# EAGLE library part ARDUINO-VARIOUS_ARDUINO-USB (library lightuino3.lbrlightuino3.1)
The Ardiuno Duemilanove Pinouts layoutet as a Bare Shield. v0.5 Also for Arduino Diecimila. This is designed as a Part and has no Outline in the Dimension Layer. The Outline, when present, is drawed at the tPlace / bPlace Layer. Library by Stephanie Lange, http://www.k-ita.de/~sl/
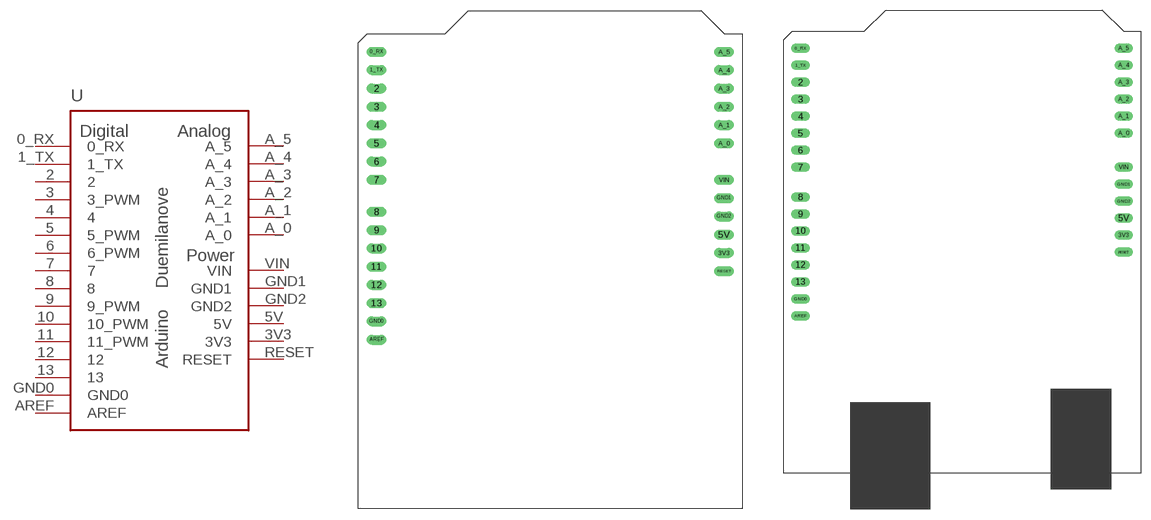
[diagram p0: symbol with the pads of ARDUINO-VARIOUS_SHIELD-NOTEXT; footprints ARDUINO-VARIOUS_SHIELD-NOTEXT, ARDUINO-VARIOUS_SHIELD]

Designator prefix -

## ARDUINO-VARIOUS_ARDUINO-USBLONG_PADS_NO_TEXT  [ARDUINO-VARIOUS_SHIELD-NOTEXT]
0_RX  0_RX
1_TX  1_TX
2  2
3  3_PWM
3V3  3V3  pwr
4  4
5  5_PWM
5V  5V  pwr
6  6_PWM
7  7
8  8
9  9_PWM
10  10_PWM
11  11_PWM
12  12
13  13
A_0  A_0  in
A_1  A_1  in
A_2  A_2  in
A_3  A_3  in
A_4  A_4  in
A_5  A_5  in
AREF  AREF
GND0  GND0  sup
GND1  GND1  sup
GND2  GND2  sup
RESET  RESET  in
VIN  VIN  pwr

## ARDUINO-VARIOUS_ARDUINO-USBLONG_PADS_TEXT  [ARDUINO-VARIOUS_SHIELD]
Pads as for ARDUINO-VARIOUS_SHIELD-NOTEXT

## ARDUINO-VARIOUS_ARDUINO-USBNO-OUTLINE-NO-TEXT-OCTAGONAL  [ARDUINO-VARIOUS_NO-OUTLINE-OCTAGONAL-NOTEXT]
Pads as for ARDUINO-VARIOUS_SHIELD-NOTEXT

## ARDUINO-VARIOUS_ARDUINO-USBOCTAGONAL_PADS  [ARDUINO-VARIOUS_SHIELD-OCTAGONALPAD]
Pads as for ARDUINO-VARIOUS_SHIELD-NOTEXT

## Footprint ARDUINO-VARIOUS_SHIELD-NOTEXT (pad centres in mm)
Unnamed long Solderpads eg. for homemade etched PCBs
drill 0.9 pad 1.27 long: 0_RX -25.4,27.94; 1_TX -25.4,25.4; 2 -25.4,22.86; 3 -25.4,20.32; 3V3 22.86,0; 4 -25.4,17.78; 5 -25.4,15.24; 5V 22.86,2.54; 6 -25.4,12.7; 7 -25.4,10.16; 8 -25.4,5.715; 9 -25.4,3.175; 10 -25.4,0.635; 11 -25.4,-1.905; 12 -25.4,-4.445; 13 -25.4,-6.985; A_0 22.86,15.24; A_1 22.86,17.78; A_2 22.86,20.32; A_3 22.86,22.86; A_4 22.86,25.4; A_5 22.86,27.94; AREF -25.4,-12.065; GND0 -25.4,-9.525; GND1 22.86,7.62; GND2 22.86,5.08; RESET 22.86,-2.54; VIN 22.86,10.16

## Footprint ARDUINO-VARIOUS_SHIELD (pad centres in mm)
Named long Solderpads and blocks indicating the USB and pwr parts. Do not put thru hole solder parts above these!
drill 0.9 pad 1.27 long: 0_RX -25.4,27.94; 1_TX -25.4,25.4; 2 -25.4,22.86; 3 -25.4,20.32; 3V3 22.86,0; 4 -25.4,17.78; 5 -25.4,15.24; 5V 22.86,2.54; 6 -25.4,12.7; 7 -25.4,10.16; 8 -25.4,5.715; 9 -25.4,3.175; 10 -25.4,0.635; 11 -25.4,-1.905; 12 -25.4,-4.445; 13 -25.4,-6.985; A_0 22.86,15.24; A_1 22.86,17.78; A_2 22.86,20.32; A_3 22.86,22.86; A_4 22.86,25.4; A_5 22.86,27.94; AREF -25.4,-12.065; GND0 -25.4,-9.525; GND1 22.86,7.62; GND2 22.86,5.08; RESET 22.86,-2.54; VIN 22.86,10.16

## Footprint ARDUINO-VARIOUS_NO-OUTLINE-OCTAGONAL-NOTEXT (pad centres in mm)
Just the bare Pinout, no Board Outline, no Text. Octagonal Pads
drill 0.8 pad 1.27 octagon: 0_RX -25.4,27.94; 1_TX -25.4,25.4; 2 -25.4,22.86; 3 -25.4,20.32; 3V3 22.86,0; 4 -25.4,17.78; 5 -25.4,15.24; 5V 22.86,2.54; 6 -25.4,12.7; 7 -25.4,10.16; 8 -25.4,5.715; 9 -25.4,3.175; 10 -25.4,0.635; 11 -25.4,-1.905; 12 -25.4,-4.445; 13 -25.4,-6.985; A_0 22.86,15.24; A_1 22.86,17.78; A_2 22.86,20.32; A_3 22.86,22.86; A_4 22.86,25.4; A_5 22.86,27.94; AREF -25.4,-12.065; GND0 -25.4,-9.525; GND1 22.86,7.62; GND2 22.86,5.08; RESET 22.86,-2.54; VIN 22.86,10.16

## Footprint ARDUINO-VARIOUS_SHIELD-OCTAGONALPAD (pad centres in mm)
Named octagonal Pads eg. for manufactored PCBs
drill 0.8 pad 1.27 octagon: 0_RX -25.4,27.94; 1_TX -25.4,25.4; 2 -25.4,22.86; 3 -25.4,20.32; 3V3 22.86,0; 4 -25.4,17.78; 5 -25.4,15.24; 5V 22.86,2.54; 6 -25.4,12.7; 7 -25.4,10.16; 8 -25.4,5.715; 9 -25.4,3.175; 10 -25.4,0.635; 11 -25.4,-1.905; 12 -25.4,-4.445; 13 -25.4,-6.985; A_0 22.86,15.24; A_1 22.86,17.78; A_2 22.86,20.32; A_3 22.86,22.86; A_4 22.86,25.4; A_5 22.86,27.94; AREF -25.4,-12.065; GND0 -25.4,-9.525; GND1 22.86,7.62; GND2 22.86,5.08; RESET 22.86,-2.54; VIN 22.86,10.16
hole 3.2 at 17.78,30.48
hole 3.2 at -10.16,30.48
hole 3.2 at -25.4,-20.32